# EAGLE library part ACID (library cpcplus-cartridge)
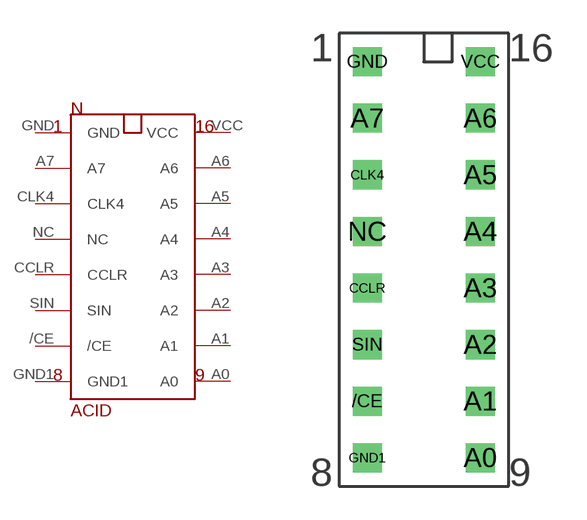
[diagram p1: symbol with the pads of ACID; footprint ACID]

Designator prefix N

## ACID  [ACID]
/CE  /CE  in
A0  A0  in
A1  A1  in
A2  A2  in
A3  A3  in
A4  A4  in
A5  A5  in
A6  A6  in
A7  A7  in
CCLR  CCLR  in
CLK4  CLK4  in
GND  GND  pwr
GND1  GND1  pwr
NC  NC  nc
SIN  SIN  out
VCC  VCC  pwr

## Footprint ACID (pad centres in mm)
drill 0.8 square: /CE -3.81,-6.35; A0 1.27,-8.89; A1 1.27,-6.35; A2 1.27,-3.81; A3 1.27,-1.27; A4 1.27,1.27; A5 1.27,3.81; A6 1.27,6.35; A7 -3.81,6.35; CCLR -3.81,-1.27; CLK4 -3.81,3.81; GND -3.81,8.89; GND1 -3.81,-8.89; NC -3.81,1.27; SIN -3.81,-3.81; VCC 1.27,8.89